# Altium schematic symbol library PSOC.SchLib: 3 symbols
Pins are listed as number, name and electrical type; pins without a type are passive.

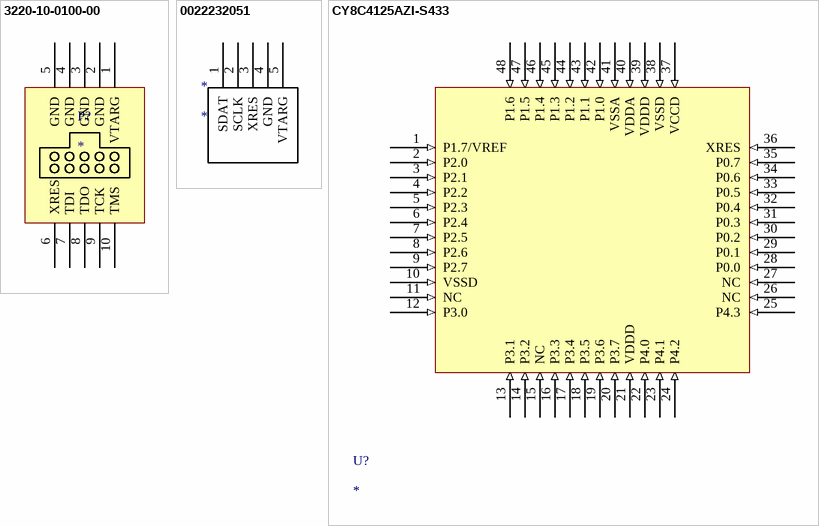
[diagram p0: symbols 3220-10-0100-00 to CY8C4125AZI-S433]

## 3220-10-0100-00
designator P?
JTAG SWD CONN 1.27mm pitch 10POS / https://www.digikey.com/product-detail/en/cnc-tech/3220-10-0100-00/1175-1627-ND/3883661
pins: 1 VTARG, 2 GND, 3 GND, 4 GND, 5 GND, 6 XRES, 7 TDI, 8 TDO, 9 TCK, 10 TMS

## 0022232051
designator *
pins: 1 SDAT, 2 SCLK, 3 XRES, 4 GND, 5 VTARG

## CY8C4125AZI-S433
designator U?
https://www.digikey.ca/product-detail/en/cypress-semiconductor-corp/CY8C4125AZI-S433/428-4505-ND/7362179
footprint CY8C4125AZI-S433 (CQFP, 48-Leads, Body 11.70x11.70mm, Pitch 0.50mm, IPC Medium Density)
pins: 1 P1.7/VREF (in), 2 P2.0 (in), 3 P2.1 (in), 4 P2.2 (in), 5 P2.3 (in), 6 P2.4 (in), 7 P2.5 (in), 8 P2.6 (in), 9 P2.7 (in), 10 VSSD (in), 11 NC (in), 12 P3.0 (in), 13 P3.1 (in), 14 P3.2 (in), 15 NC (in), 16 P3.3 (in), 17 P3.4 (in), 18 P3.5 (in), 19 P3.6 (in), 20 P3.7 (in), 21 VDDD (in), 22 P4.0 (in), 23 P4.1 (in), 24 P4.2 (in), 25 P4.3 (in), 26 NC (in), 27 NC (in), 28 P0.0 (in), 29 P0.1 (in), 30 P0.2 (in), 31 P0.3 (in), 32 P0.4 (in), 33 P0.5 (in), 34 P0.6 (in), 35 P0.7 (in), 36 XRES (in), 37 VCCD (in), 38 VSSD (in), 39 VDDD (in), 40 VDDA (in), 41 VSSA (in), 42 P1.0 (in), 43 P1.1 (in), 44 P1.2 (in), 45 P1.3 (in), 46 P1.4 (in), 47 P1.5 (in), 48 P1.6 (in)